# Altium schematic symbol library KLS1-TF-003.SchLib: 1 symbol
Pins are listed as number, name and electrical type; pins without a type are passive.

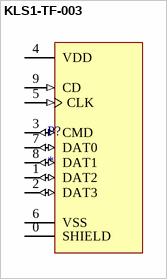
[diagram p0: symbol KLS1-TF-003]

## KLS1-TF-003
designator P?
Micro SD Card Socket; MP: ST-TF-003A; MF: {'manufacturer': u'Suntech'}; Value: *; Package: None; Price: None; Availability: Unavailable
footprint KLS1-TF-003
pins: 0 SHIELD, 1 DAT2 (io), 2 DAT3 (io), 3 CMD (io), 4 VDD (power), 5 CLK (in), 6 VSS, 7 DAT0 (io), 8 DAT1 (io), 9 CD (in)